# Altium schematic symbol library 78M05.SCHLIB: 1 symbol
Pins are listed as number, name and electrical type; pins without a type are passive.

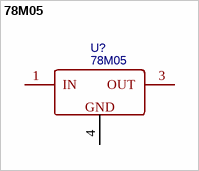
[diagram p0: symbol 78M05]

## 78M05
designator U?
Manufacturer: SHIKUES(时科); Supplier: LCSC; Manufacturer Part: 78M05; Supplier Part: C111265; JLCPCB Part Class: Extended Part; spicePre: U; spiceSymbolName: 78M05
footprint TO-252-2_L6.5-W6.1-P4.58-LS10.0-TL
pins: 1 IN, 3 OUT, 4 GND